# EAGLE library part SODIMM_1473* (library NewSDR)
Tyco SO-DIMM DDR2 200 Pin Socket, 0.6mm Pitch, 200 Position Standard Profile
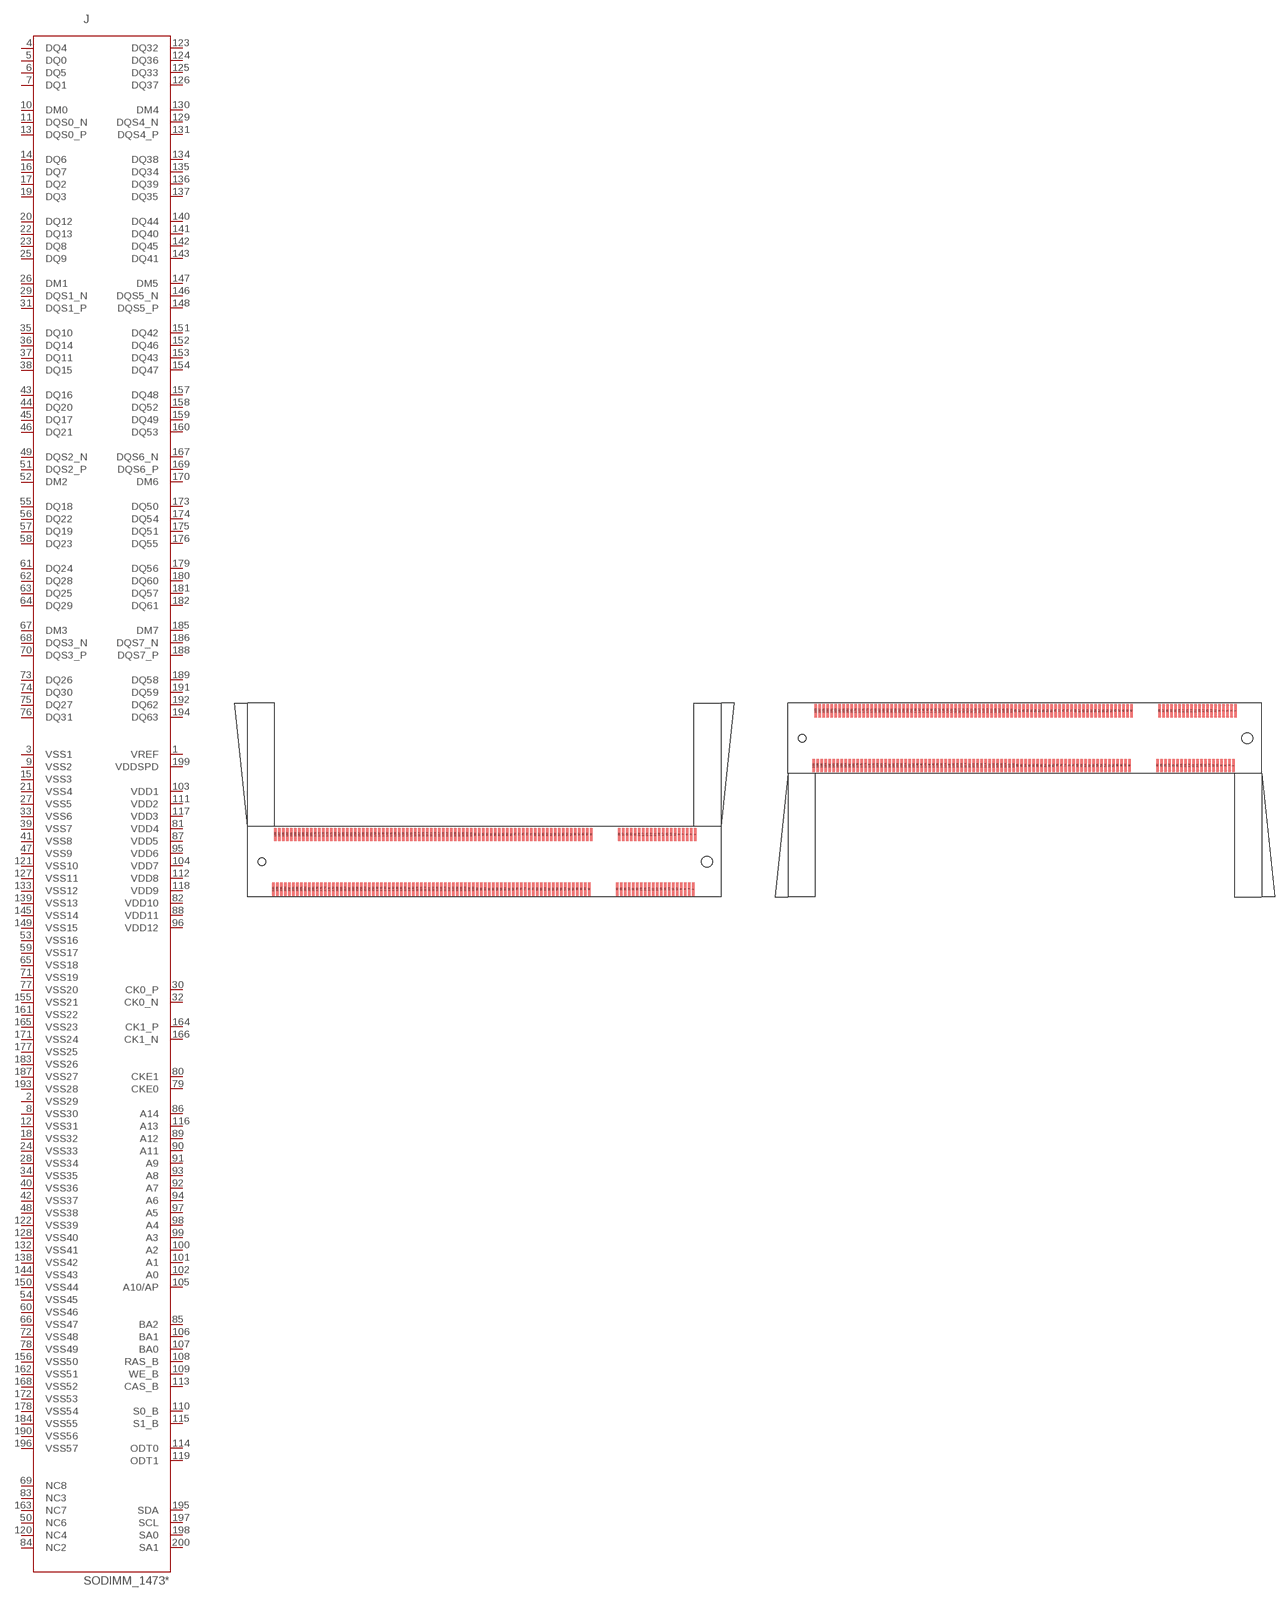
[diagram p119: symbol with the pads of SODIMM200L; footprints SODIMM200L, SODIMM200R]

Designator prefix J

## SODIMM_1473150_M  [SODIMM200L]
1  VREF  in
2  VSS29  pas
3  VSS1  pas
4  DQ4
5  DQ0
6  DQ5
7  DQ1
8  VSS30  pas
9  VSS2  pas
10  DM0
11  DQS0_N
12  VSS31  pas
13  DQS0_P
14  DQ6
15  VSS3  pas
16  DQ7
17  DQ2
18  VSS32  pas
19  DQ3
20  DQ12
21  VSS4  pas
22  DQ13
23  DQ8
24  VSS33  pas
25  DQ9
26  DM1
27  VSS5  pas
28  VSS34  pas
29  DQS1_N
30  CK0_P  in
31  DQS1_P
32  CK0_N  in
33  VSS6  pas
34  VSS35  pas
35  DQ10
36  DQ14
37  DQ11
38  DQ15
39  VSS7  pas
40  VSS36  pas
41  VSS8  pas
42  VSS37  pas
43  DQ16
44  DQ20
45  DQ17
46  DQ21
47  VSS9  pas
48  VSS38  pas
49  DQS2_N
50  NC6  nc
51  DQS2_P
52  DM2
53  VSS16  pas
54  VSS45  pas
55  DQ18
56  DQ22
57  DQ19
58  DQ23
59  VSS17  pas
60  VSS46  pas
61  DQ24
62  DQ28
63  DQ25
64  DQ29
65  VSS18  pas
66  VSS47  pas
67  DM3
68  DQS3_N
69  NC8  nc
70  DQS3_P
71  VSS19  pas
72  VSS48  pas
73  DQ26
74  DQ30
75  DQ27
76  DQ31
77  VSS20  pas
78  VSS49  pas
79  CKE0  in
80  CKE1  in
81  VDD4  pwr
82  VDD10  pwr
83  NC3  nc
84  NC2  nc
85  BA2  in
86  A14  in
87  VDD5  pwr
88  VDD11  pwr
89  A12  in
90  A11  in
91  A9  in
92  A7  in
93  A8  in
94  A6  in
95  VDD6  pwr
96  VDD12  pwr
97  A5  in
98  A4  in
99  A3  in
100  A2  in
101  A1  in
102  A0  in
103  VDD1  pwr
104  VDD7  pwr
105  A10/AP  in
106  BA1  in
107  BA0  in
108  RAS_B  in
109  WE_B  in
110  S0_B  in
111  VDD2  pwr
112  VDD8  pwr
113  CAS_B  in
114  ODT0  in
115  S1_B  in
116  A13  in
117  VDD3  pwr
118  VDD9  pwr
119  ODT1  in
120  NC4  nc
121  VSS10  pas
122  VSS39  pas
123  DQ32
124  DQ36
125  DQ33
126  DQ37
127  VSS11  pas
128  VSS40  pas
129  DQS4_N
130  DM4
131  DQS4_P
132  VSS41  pas
133  VSS12  pas
134  DQ38
135  DQ34
136  DQ39
137  DQ35
138  VSS42  pas
139  VSS13  pas
140  DQ44
141  DQ40
142  DQ45
143  DQ41
144  VSS43  pas
145  VSS14  pas
146  DQS5_N
147  DM5
148  DQS5_P
149  VSS15  pas
150  VSS44  pas
151  DQ42
152  DQ46
153  DQ43
154  DQ47
155  VSS21  pas
156  VSS50  pas
157  DQ48
158  DQ52
159  DQ49
160  DQ53
161  VSS22  pas
162  VSS51  pas
163  NC7  nc
164  CK1_P  in
165  VSS23  pas
166  CK1_N  in
167  DQS6_N
168  VSS52  pas
169  DQS6_P
170  DM6
171  VSS24  pas
172  VSS53  pas
173  DQ50
174  DQ54
175  DQ51
176  DQ55
177  VSS25  pas
178  VSS54  pas
179  DQ56
180  DQ60
181  DQ57
182  DQ61
183  VSS26  pas
184  VSS55  pas
185  DM7
186  DQS7_N
187  VSS27  pas
188  DQS7_P
189  DQ58
190  VSS56  pas
191  DQ59
192  DQ62
193  VSS28  pas
194  DQ63
195  SDA  in
196  VSS57  pas
197  SCL  in
198  SA0  in
199  VDDSPD  pwr
200  SA1  in

## SODIMM_1473005_J  [SODIMM200R]
Pads as for SODIMM200L

## Footprint SODIMM200L (pad centres in mm)
Tyco SO-DIMM DDR2 200 Pin Socket, 0.6mm Pitch, 200 Position Standard Profile - Left
smd 0.35 x 2: 1 31.65,4.1; 2 31.35,-4.1; 3 31.05,4.1; 4 30.75,-4.1; 5 30.45,4.1; 6 30.15,-4.1; 7 29.85,4.1; 8 29.55,-4.1; 9 29.25,4.1; 10 28.95,-4.1; 11 28.65,4.1; 12 28.35,-4.1; 13 28.05,4.1; 14 27.75,-4.1; 15 27.45,4.1; 16 27.15,-4.1; 17 26.85,4.1; 18 26.55,-4.1; 19 26.25,4.1; 20 25.95,-4.1; 21 25.65,4.1; 22 25.35,-4.1; 23 25.05,4.1; 24 24.75,-4.1; 25 24.45,4.1; 26 24.15,-4.1; 27 23.85,4.1; 28 23.55,-4.1; 29 23.25,4.1; 30 22.95,-4.1; 31 22.65,4.1; 32 22.35,-4.1; 33 22.05,4.1; 34 21.75,-4.1; 35 21.45,4.1; 36 21.15,-4.1; 37 20.85,4.1; 38 20.55,-4.1; 39 20.25,4.1; 40 19.95,-4.1; 41 16.05,4.1; 42 15.75,-4.1; 43 15.45,4.1; 44 15.15,-4.1; 45 14.85,4.1; 46 14.55,-4.1; 47 14.25,4.1; 48 13.95,-4.1; 49 13.65,4.1; 50 13.35,-4.1; 51 13.05,4.1; 52 12.75,-4.1; 53 12.45,4.1; 54 12.15,-4.1; 55 11.85,4.1; 56 11.55,-4.1; 57 11.25,4.1; 58 10.95,-4.1; 59 10.65,4.1; 60 10.35,-4.1; 61 10.05,4.1; 62 9.75,-4.1; 63 9.45,4.1; 64 9.15,-4.1; 65 8.85,4.1; 66 8.55,-4.1; 67 8.25,4.1; 68 7.95,-4.1; 69 7.65,4.1; 70 7.35,-4.1; 71 7.05,4.1; 72 6.75,-4.1; 73 6.45,4.1; 74 6.15,-4.1; 75 5.85,4.1; 76 5.55,-4.1; 77 5.25,4.1; 78 4.95,-4.1; 79 4.65,4.1; 80 4.35,-4.1; 81 4.05,4.1; 82 3.75,-4.1; 83 3.45,4.1; 84 3.15,-4.1; 85 2.85,4.1; 86 2.55,-4.1; 87 2.25,4.1; 88 1.95,-4.1; 89 1.65,4.1; 90 1.35,-4.1; 91 1.05,4.1; 92 0.75,-4.1; 93 0.45,4.1; 94 0.15,-4.1; 95 -0.15,4.1; 96 -0.45,-4.1; 97 -0.75,4.1; 98 -1.05,-4.1; 99 -1.35,4.1; 100 -1.65,-4.1; 101 -1.95,4.1; 102 -2.25,-4.1; 103 -2.55,4.1; 104 -2.85,-4.1; 105 -3.15,4.1; 106 -3.45,-4.1; 107 -3.75,4.1; 108 -4.05,-4.1; 109 -4.35,4.1; 110 -4.65,-4.1; 111 -4.95,4.1; 112 -5.25,-4.1; 113 -5.55,4.1; 114 -5.85,-4.1; 115 -6.15,4.1; 116 -6.45,-4.1; 117 -6.75,4.1; 118 -7.05,-4.1; 119 -7.35,4.1; 120 -7.65,-4.1; 121 -7.95,4.1; 122 -8.25,-4.1; 123 -8.55,4.1; 124 -8.85,-4.1; 125 -9.15,4.1; 126 -9.45,-4.1; 127 -9.75,4.1; 128 -10.05,-4.1; 129 -10.35,4.1; 130 -10.65,-4.1; 131 -10.95,4.1; 132 -11.25,-4.1; 133 -11.55,4.1; 134 -11.85,-4.1; 135 -12.15,4.1; 136 -12.45,-4.1; 137 -12.75,4.1; 138 -13.05,-4.1; 139 -13.35,4.1; 140 -13.65,-4.1; 141 -13.95,4.1; 142 -14.25,-4.1; 143 -14.55,4.1; 144 -14.85,-4.1; 145 -15.15,4.1; 146 -15.45,-4.1; 147 -15.75,4.1; 148 -16.05,-4.1; 149 -16.35,4.1; 150 -16.65,-4.1; 151 -16.95,4.1; 152 -17.25,-4.1; 153 -17.55,4.1; 154 -17.85,-4.1; 155 -18.15,4.1; 156 -18.45,-4.1; 157 -18.75,4.1; 158 -19.05,-4.1; 159 -19.35,4.1; 160 -19.65,-4.1; 161 -19.95,4.1; 162 -20.25,-4.1; 163 -20.55,4.1; 164 -20.85,-4.1; 165 -21.15,4.1; 166 -21.45,-4.1; 167 -21.75,4.1; 168 -22.05,-4.1; 169 -22.35,4.1; 170 -22.65,-4.1; 171 -22.95,4.1; 172 -23.25,-4.1; 173 -23.55,4.1; 174 -23.85,-4.1; 175 -24.15,4.1; 176 -24.45,-4.1; 177 -24.75,4.1; 178 -25.05,-4.1; 179 -25.34,4.1; 180 -25.64,-4.1; 181 -25.94,4.1; 182 -26.24,-4.1; 183 -26.54,4.1; 184 -26.84,-4.1; 185 -27.14,4.1; 186 -27.44,-4.1; 187 -27.74,4.1; 188 -28.04,-4.1; 189 -28.34,4.1; 190 -28.64,-4.1; 191 -28.94,4.1; 192 -29.24,-4.1; 193 -29.54,4.1; 194 -29.84,-4.1; 195 -30.14,4.1; 196 -30.44,-4.1; 197 -30.74,4.1; 198 -31.04,-4.1; 199 -31.34,4.1; 200 -31.64,-4.1
hole 1.1 at -33.4,0
hole 1.6 at 33.4,0

## Footprint SODIMM200R (pad centres in mm)
Tyco SO-DIMM DDR2 200 Pin Socket, 0.6mm Pitch, 200 Position Standard Profile - Right
smd 0.35 x 2: 1 31.65,4.1; 2 31.35,-4.1; 3 31.05,4.1; 4 30.75,-4.1; 5 30.45,4.1; 6 30.15,-4.1; 7 29.85,4.1; 8 29.55,-4.1; 9 29.25,4.1; 10 28.95,-4.1; 11 28.65,4.1; 12 28.35,-4.1; 13 28.05,4.1; 14 27.75,-4.1; 15 27.45,4.1; 16 27.15,-4.1; 17 26.85,4.1; 18 26.55,-4.1; 19 26.25,4.1; 20 25.95,-4.1; 21 25.65,4.1; 22 25.35,-4.1; 23 25.05,4.1; 24 24.75,-4.1; 25 24.45,4.1; 26 24.15,-4.1; 27 23.85,4.1; 28 23.55,-4.1; 29 23.25,4.1; 30 22.95,-4.1; 31 22.65,4.1; 32 22.35,-4.1; 33 22.05,4.1; 34 21.75,-4.1; 35 21.45,4.1; 36 21.15,-4.1; 37 20.85,4.1; 38 20.55,-4.1; 39 20.25,4.1; 40 19.95,-4.1; 41 16.05,4.1; 42 15.75,-4.1; 43 15.45,4.1; 44 15.15,-4.1; 45 14.85,4.1; 46 14.55,-4.1; 47 14.25,4.1; 48 13.95,-4.1; 49 13.65,4.1; 50 13.35,-4.1; 51 13.05,4.1; 52 12.75,-4.1; 53 12.45,4.1; 54 12.15,-4.1; 55 11.85,4.1; 56 11.55,-4.1; 57 11.25,4.1; 58 10.95,-4.1; 59 10.65,4.1; 60 10.35,-4.1; 61 10.05,4.1; 62 9.75,-4.1; 63 9.45,4.1; 64 9.15,-4.1; 65 8.85,4.1; 66 8.55,-4.1; 67 8.25,4.1; 68 7.95,-4.1; 69 7.65,4.1; 70 7.35,-4.1; 71 7.05,4.1; 72 6.75,-4.1; 73 6.45,4.1; 74 6.15,-4.1; 75 5.85,4.1; 76 5.55,-4.1; 77 5.25,4.1; 78 4.95,-4.1; 79 4.65,4.1; 80 4.35,-4.1; 81 4.05,4.1; 82 3.75,-4.1; 83 3.45,4.1; 84 3.15,-4.1; 85 2.85,4.1; 86 2.55,-4.1; 87 2.25,4.1; 88 1.95,-4.1; 89 1.65,4.1; 90 1.35,-4.1; 91 1.05,4.1; 92 0.75,-4.1; 93 0.45,4.1; 94 0.15,-4.1; 95 -0.15,4.1; 96 -0.45,-4.1; 97 -0.75,4.1; 98 -1.05,-4.1; 99 -1.35,4.1; 100 -1.65,-4.1; 101 -1.95,4.1; 102 -2.25,-4.1; 103 -2.55,4.1; 104 -2.85,-4.1; 105 -3.15,4.1; 106 -3.45,-4.1; 107 -3.75,4.1; 108 -4.05,-4.1; 109 -4.35,4.1; 110 -4.65,-4.1; 111 -4.95,4.1; 112 -5.25,-4.1; 113 -5.55,4.1; 114 -5.85,-4.1; 115 -6.15,4.1; 116 -6.45,-4.1; 117 -6.75,4.1; 118 -7.05,-4.1; 119 -7.35,4.1; 120 -7.65,-4.1; 121 -7.95,4.1; 122 -8.25,-4.1; 123 -8.55,4.1; 124 -8.85,-4.1; 125 -9.15,4.1; 126 -9.45,-4.1; 127 -9.75,4.1; 128 -10.05,-4.1; 129 -10.35,4.1; 130 -10.65,-4.1; 131 -10.95,4.1; 132 -11.25,-4.1; 133 -11.55,4.1; 134 -11.85,-4.1; 135 -12.15,4.1; 136 -12.45,-4.1; 137 -12.75,4.1; 138 -13.05,-4.1; 139 -13.35,4.1; 140 -13.65,-4.1; 141 -13.95,4.1; 142 -14.25,-4.1; 143 -14.55,4.1; 144 -14.85,-4.1; 145 -15.15,4.1; 146 -15.45,-4.1; 147 -15.75,4.1; 148 -16.05,-4.1; 149 -16.35,4.1; 150 -16.65,-4.1; 151 -16.95,4.1; 152 -17.25,-4.1; 153 -17.55,4.1; 154 -17.85,-4.1; 155 -18.15,4.1; 156 -18.45,-4.1; 157 -18.75,4.1; 158 -19.05,-4.1; 159 -19.35,4.1; 160 -19.65,-4.1; 161 -19.95,4.1; 162 -20.25,-4.1; 163 -20.55,4.1; 164 -20.85,-4.1; 165 -21.15,4.1; 166 -21.45,-4.1; 167 -21.75,4.1; 168 -22.05,-4.1; 169 -22.35,4.1; 170 -22.65,-4.1; 171 -22.95,4.1; 172 -23.25,-4.1; 173 -23.55,4.1; 174 -23.85,-4.1; 175 -24.15,4.1; 176 -24.45,-4.1; 177 -24.75,4.1; 178 -25.05,-4.1; 179 -25.34,4.1; 180 -25.64,-4.1; 181 -25.94,4.1; 182 -26.24,-4.1; 183 -26.54,4.1; 184 -26.84,-4.1; 185 -27.14,4.1; 186 -27.44,-4.1; 187 -27.74,4.1; 188 -28.04,-4.1; 189 -28.34,4.1; 190 -28.64,-4.1; 191 -28.94,4.1; 192 -29.24,-4.1; 193 -29.54,4.1; 194 -29.84,-4.1; 195 -30.14,4.1; 196 -30.44,-4.1; 197 -30.74,4.1; 198 -31.04,-4.1; 199 -31.34,4.1; 200 -31.64,-4.1
hole 1.1 at -33.4,0
hole 1.6 at 33.4,0